# EAGLE library part AD9910 (library NewSDR)
Analog Devices 1 Gsps, 14-bit, 3.3V CMOS Direct Digital Synthesizer (DDS)
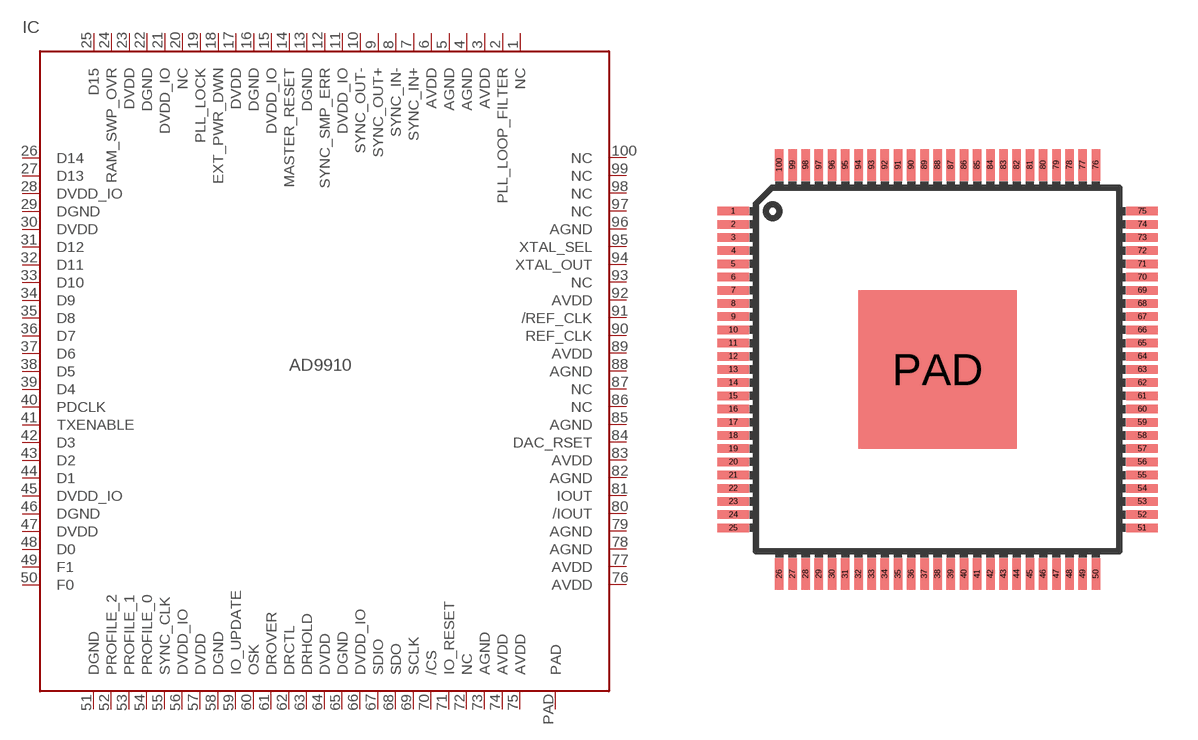
[diagram p90: symbol with the pads of LQFP100_EP; footprint LQFP100_EP]

Designator prefix IC

## AD9910  [LQFP100_EP]
1  NC  nc
2  PLL_LOOP_FILTER  in
3  AVDD  pwr
4  AGND  pwr
5  AGND  pwr
6  AVDD  pwr
7  SYNC_IN+  in
8  SYNC_IN-  in
9  SYNC_OUT+  out
10  SYNC_OUT-  out
11  DVDD_IO  pwr
12  SYNC_SMP_ERR  out
13  DGND  pwr
14  MASTER_RESET  in
15  DVDD_IO  pwr
16  DGND  pwr
17  DVDD  pwr
18  EXT_PWR_DWN  in
19  PLL_LOCK  out
20  NC
21  DVDD_IO  pwr
22  DGND  pwr
23  DVDD  pwr
24  RAM_SWP_OVR  out
25  D15  in
26  D14  in
27  D13  in
28  DVDD_IO  pwr
29  DGND  pwr
30  DVDD  pwr
31  D12  in
32  D11  in
33  D10  in
34  D9  in
35  D8  in
36  D7  in
37  D6  in
38  D5  in
39  D4  in
40  PDCLK  out
41  TXENABLE  in
42  D3  in
43  D2  in
44  D1  in
45  DVDD_IO  pwr
46  DGND  pwr
47  DVDD  pwr
48  D0  in
49  F1  in
50  F0  in
51  DGND  pwr
52  PROFILE_2  in
53  PROFILE_1  in
54  PROFILE_0  in
55  SYNC_CLK  out
56  DVDD_IO  pwr
57  DVDD  pwr
58  DGND  pwr
59  IO_UPDATE
60  OSK  in
61  DROVER  out
62  DRCTL  in
63  DRHOLD  in
64  DVDD  pwr
65  DGND  pwr
66  DVDD_IO  pwr
67  SDIO
68  SDO  out
69  SCLK  in
70  /CS  in
71  IO_RESET  in
72  NC
73  AGND  pwr
74  AVDD  pwr
75  AVDD  pwr
76  AVDD  pwr
77  AVDD  pwr
78  AGND  pwr
79  AGND  pwr
80  /IOUT  out
81  IOUT  out
82  AGND  pwr
83  AVDD  pwr
84  DAC_RSET  out
85  AGND  pwr
86  NC  nc
87  NC  nc
88  AGND  pwr
89  AVDD  pwr
90  REF_CLK  in
91  /REF_CLK  in
92  AVDD  pwr
93  NC  nc
94  XTAL_OUT  out
95  XTAL_SEL  in
96  AGND  pwr
97  NC  nc
98  NC  nc
99  NC  nc
100  NC  nc
PAD  PAD  pwr

## Footprint LQFP100_EP (pad centres in mm)
100-Lead Metric Thin Plastic Quad Flatpack With Exposed Pad
smd 1.2 x 0.32: 1 -7.75,6; 2 -7.75,5.5; 3 -7.75,5; 4 -7.75,4.5; 5 -7.75,4; 6 -7.75,3.5; 7 -7.75,3; 8 -7.75,2.5; 9 -7.75,2; 10 -7.75,1.5; 11 -7.75,1; 12 -7.75,0.5; 13 -7.75,0; 14 -7.75,-0.5; 15 -7.75,-1; 16 -7.75,-1.5; 17 -7.75,-2; 18 -7.75,-2.5; 19 -7.75,-3; 20 -7.75,-3.5; 21 -7.75,-4; 22 -7.75,-4.5; 23 -7.75,-5; 24 -7.75,-5.5; 25 -7.75,-6; 51 7.75,-6; 52 7.75,-5.5; 53 7.75,-5; 54 7.75,-4.5; 55 7.75,-4; 56 7.75,-3.5; 57 7.75,-3; 58 7.75,-2.5; 59 7.75,-2; 60 7.75,-1.5; 61 7.75,-1; 62 7.75,-0.5; 63 7.75,0; 64 7.75,0.5; 65 7.75,1; 66 7.75,1.5; 67 7.75,2; 68 7.75,2.5; 69 7.75,3; 70 7.75,3.5; 71 7.75,4; 72 7.75,4.5; 73 7.75,5; 74 7.75,5.5; 75 7.75,6
smd 0.32 x 1.2: 26 -6,-7.75; 27 -5.5,-7.75; 28 -5,-7.75; 29 -4.5,-7.75; 30 -4,-7.75; 31 -3.5,-7.75; 32 -3,-7.75; 33 -2.5,-7.75; 34 -2,-7.75; 35 -1.5,-7.75; 36 -1,-7.75; 37 -0.5,-7.75; 38 0,-7.75; 39 0.5,-7.75; 40 1,-7.75; 41 1.5,-7.75; 42 2,-7.75; 43 2.5,-7.75; 44 3,-7.75; 45 3.5,-7.75; 46 4,-7.75; 47 4.5,-7.75; 48 5,-7.75; 49 5.5,-7.75; 50 6,-7.75; 76 6,7.75; 77 5.5,7.75; 78 5,7.75; 79 4.5,7.75; 80 4,7.75; 81 3.5,7.75; 82 3,7.75; 83 2.5,7.75; 84 2,7.75; 85 1.5,7.75; 86 1,7.75; 87 0.5,7.75; 88 0,7.75; 89 -0.5,7.75; 90 -1,7.75; 91 -1.5,7.75; 92 -2,7.75; 93 -2.5,7.75; 94 -3,7.75; 95 -3.5,7.75; 96 -4,7.75; 97 -4.5,7.75; 98 -5,7.75; 99 -5.5,7.75; 100 -6,7.75
smd 6 x 6: PAD 0,0